# EAGLE library part WE-LAN_HV_10/100_BASETX_749014011_749014012_749014013 (library Wuerth_Elektronik_eiSos_Version_6-12)
LAN-Transformer WE-LAN HV 10/100 Base Tx - Compliant with IEEE 802.3 standards - 4 kV Hipot Test - SMD -- Ethernet -- Compliant with most IC's for ethernet applications like Intel, AMD, Globespan and Realtek -- Hub, Router, Switches, medical applications
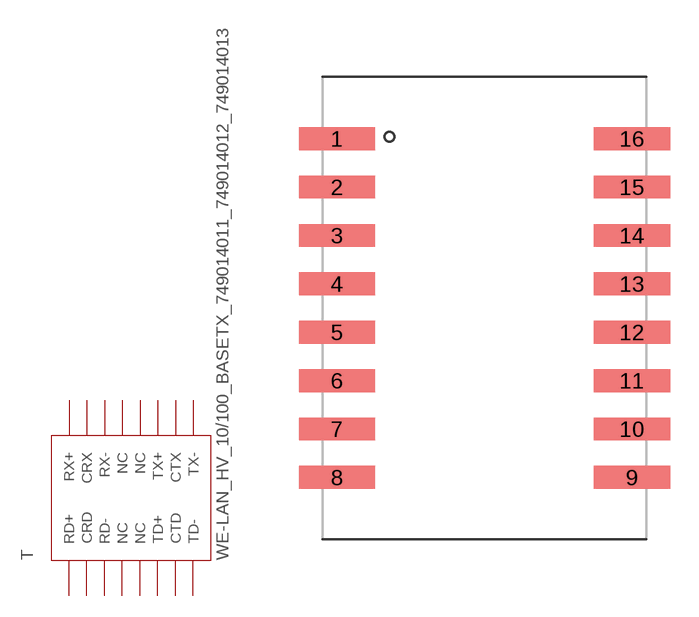
[diagram p43: symbol with the pads of WE-LAN_HV_10/100_BASETX_749014011_749014012_749014013; footprint WE-LAN_HV_10/100_BASETX_749014011_749014012_749014013]

Designator prefix T

## WE-LAN_HV_10/100_BASETX_749014011_749014012_749014013  [WE-LAN_HV_10/100_BASETX_749014011_749014012_749014013]
1  RD+  pas
2  CRD  pas
3  RD-  pas
4  NC  nc
5  NC  nc
6  TD+  pas
7  CTD  pas
8  TD-  pas
9  TX-  pas
10  CTX  pas
11  TX+  pas
12  NC  nc
13  NC  nc
14  RX-  pas
15  CRX  pas
16  RX+  pas

## Footprint WE-LAN_HV_10/100_BASETX_749014011_749014012_749014013 (pad centres in mm)
LAN-Transformer WE-LAN HV 10/100 Base Tx
smd 4 x 1.2: 1 -7.75,8.89; 2 -7.75,6.35; 3 -7.75,3.81; 4 -7.75,1.27; 5 -7.75,-1.27; 6 -7.75,-3.81; 7 -7.75,-6.35; 8 -7.75,-8.89; 9 7.75,-8.89; 10 7.75,-6.35; 11 7.75,-3.81; 12 7.75,-1.27; 13 7.75,1.27; 14 7.75,3.81; 15 7.75,6.35; 16 7.75,8.89